# Altium schematic symbol library PJ-102A.SchLib: 1 symbol
Pins are listed as number, name and electrical type; pins without a type are passive.

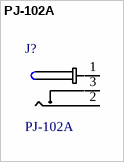
[diagram p0: symbol PJ-102A]

## PJ-102A
designator J?
Value: *
footprint *CUI_PJ-102A
pins: 1 (power), 2 (power), 3 (power)